# Altium schematic symbol library Schlib2.SchLib: 16 symbols
Pins are listed as number, name and electrical type; pins without a type are passive.

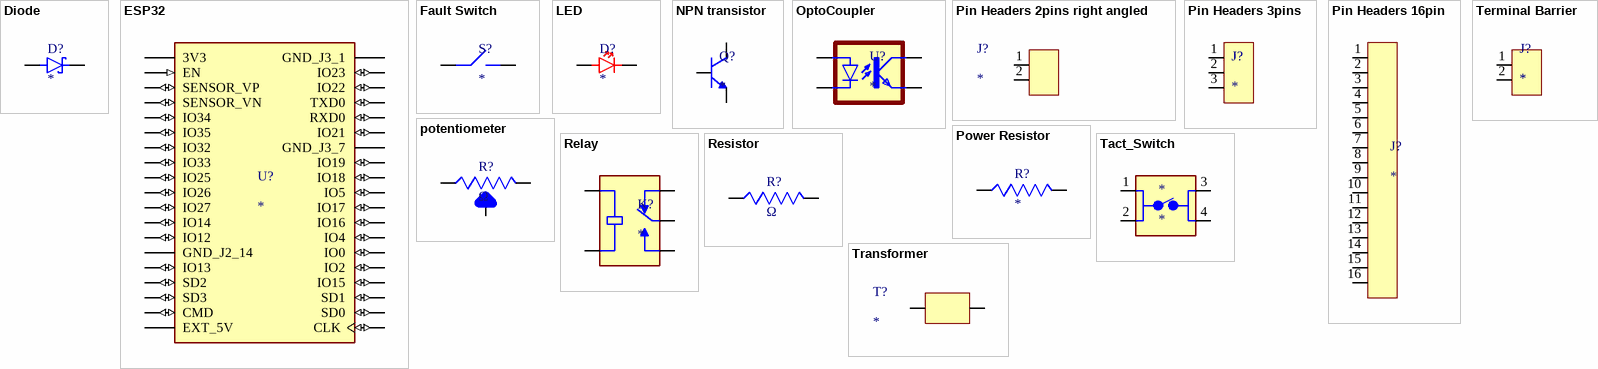
[diagram p0: symbols Diode to Transformer]

## Diode
designator D?
footprint Diode
pins: 1 K, 2 A

## ESP32
designator U?
footprint ESP32
pins: J2_1 3V3 (power), J2_2 EN (in), J2_3 SENSOR_VP (io), J2_4 SENSOR_VN (io), J2_5 IO34 (io), J2_6 IO35 (io), J2_7 IO32 (io), J2_8 IO33 (io), J2_9 IO25 (io), J2_10 IO26 (io), J2_11 IO27 (io), J2_12 IO14 (io), J2_13 IO12 (io), J2_14 GND_J2_14 (power), J2_15 IO13 (io), J2_16 SD2 (io), J2_17 SD3 (io), J2_18 CMD (io), J2_19 EXT_5V (power), J3_1 GND_J3_1 (power), J3_2 IO23 (io), J3_3 IO22 (io), J3_4 TXD0 (io), J3_5 RXD0 (io), J3_6 IO21 (io), J3_7 GND_J3_7 (power), J3_8 IO19 (io), J3_9 IO18 (io), J3_10 IO5 (io), J3_11 IO17 (io), J3_12 IO16 (io), J3_13 IO4 (io), J3_14 IO0 (io), J3_15 IO2 (io), J3_16 IO15 (io), J3_17 SD1 (io), J3_18 SD0 (io), J3_19 CLK (io)

## Fault Switch
designator S?
footprint Fault switch
pins: 1, 2

## LED
designator D?
footprint LED
pins: 1 A, 2 K

## NPN transistor
designator Q?
footprint 2N2222
pins: 1 E, 2 B, 3 C

## OptoCoupler
designator U?
footprint opto
pins: 1 A, 2 C, 3 EMIT, 4 COL

## Pin Headers 2pins right angled
designator J?
footprint 2 Pin header
pins: 1, 2

## Pin Headers 3pins
designator J?
footprint CURRENT SENSOR
pins: 1, 2, 3

## Pin Headers 16pin
designator J?
footprint 16 pin header
pins: 1, 2, 3, 4, 5, 6, 7, 8, 9, 10, 11, 12, 13, 14, 15, 16

## potentiometer
designator R?, comment Ω
footprint Pot_resistor
pins: 1, 2, 3

## Power Resistor
designator R?
footprint Power res
pins: 1, 2

## Relay
designator K?
footprint Relay
pins: COIL1, COIL2, COM, NC, NO

## Resistor
designator R?, comment Ω
footprint resistor
pins: 1, 2

## Tact_Switch
designator *
footprint Tact_Switch
pins: 1, 2, 3, 4

## Terminal Barrier
designator J?
footprint Barrier terminal
pins: 1, 2

## Transformer
designator T?
pins: 1, 2